# EAGLE library part DPC (library Transformer)
Low Power Miniature Transformer | 1VA Power | 115V/230V Input | 10VCT Output Series Datasheet <https://belfuse.com/resources/datasheets/signaltransformer/ds-st-pc-series.pdf>
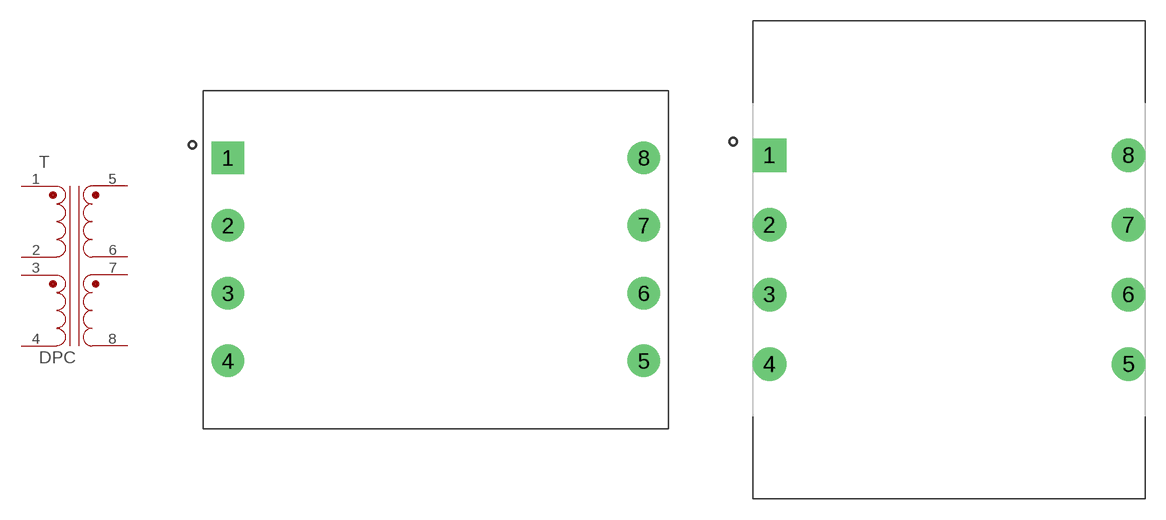
[diagram p5: symbol with the pads of XFMR_DPC-1.0; footprints XFMR_DPC-1.0, XFMR_DPC-1.2]

Designator prefix T

## DPC-10-90_1.0 (CATEGORY: Transformer; MANUFACTURER: Signal Transformer; MPN: DPC-10-90; PART_STATUS: ACTIVE; ROHS_COMPLIANT: COMPLIANT; SERIES: DPC; SUB_CATEGORY: Power; TYPE: Transformers; VALUE: DPC-10-90), DPC-12-70_1.0 (CATEGORY: Transformer; MANUFACTURER: Signal Transformer; MPN: DPC-12-70; PART_STATUS: ACTIVE; ROHS_COMPLIANT: COMPLIANT; SERIES: DPC; SUB_CATEGORY: Power; TYPE: Transformers; VALUE: DPC-12-70), DPC-120-8_1.0 (CATEGORY: Transformer; MANUFACTURER: Signal Transformer; MPN: DPC-120-8; PART_STATUS: ACTIVE; ROHS_COMPLIANT: COMPLIANT; SERIES: DPC; SUB_CATEGORY: Power; TYPE: Transformers; VALUE: DPC-120-8), DPC-16-55_1.0 (CATEGORY: Transformer; MANUFACTURER: Signal Transformer; MPN: DPC-16-55; PART_STATUS: ACTIVE; ROHS_COMPLIANT: COMPLIANT; SERIES: DPC; SUB_CATEGORY: Power; TYPE: Transformers; VALUE: DPC-16-55), DPC-20-45_1.0 (CATEGORY: Transformer; MANUFACTURER: Signal Transformer; MPN: DPC-20-45; PART_STATUS: ACTIVE; ROHS_COMPLIANT: COMPLIANT; SERIES: DPC; SUB_CATEGORY: Power; TYPE: Transformers; VALUE: DPC-20-45), DPC-24-35_1.0 (CATEGORY: Transformer; MANUFACTURER: Signal Transformer; MPN: DPC-24-35; PART_STATUS: ACTIVE; ROHS_COMPLIANT: COMPLIANT; SERIES: DPC; SUB_CATEGORY: Power; TYPE: Transformers; VALUE: DPC-24-35), DPC-28-30_1.0 (CATEGORY: Transformer; MANUFACTURER: Signal Transformer; MPN: DPC-28-30; PART_STATUS: ACTIVE; ROHS_COMPLIANT: COMPLIANT; SERIES: DPC; SUB_CATEGORY: Power; TYPE: Transformers; VALUE: DPC-28-30), DPC-34-25_1.0 (CATEGORY: Transformer; MANUFACTURER: Signal Transformer; MPN: DPC-34-25; PART_STATUS: ACTIVE; ROHS_COMPLIANT: COMPLIANT; SERIES: DPC; SUB_CATEGORY: Power; TYPE: Transformers; VALUE: DPC-34-25), DPC-40-20_1.0 (CATEGORY: Transformer; MANUFACTURER: Signal Transformer; MPN: DPC-40-20; PART_STATUS: ACTIVE; ROHS_COMPLIANT: COMPLIANT; SERIES: DPC; SUB_CATEGORY: Power; TYPE: Transformers; VALUE: DPC-40-20), DPC-56-15_1.0 (CATEGORY: Transformer; MANUFACTURER: Signal Transformer; MPN: DPC-56-15; PART_STATUS: ACTIVE; ROHS_COMPLIANT: COMPLIANT; SERIES: DPC; SUB_CATEGORY: Power; TYPE: Transformers; VALUE: DPC-56-15)  [XFMR_DPC-1.0]
1  1  pas
2  2  pas
3  3  pas
4  4  pas
5  5  pas
6  6  pas
7  7  pas
8  8  pas

## DPC-10-120_1.2 (CATEGORY: Transformer; MANUFACTURER: Signal Transformer; MPN: DPC-12-100; PART_STATUS: ACTIVE; ROHS_COMPLIANT: COMPLIANT; SERIES: DPC; SUB_CATEGORY: Power; TYPE: Transformers; VALUE: DPC-10-120), DPC-12-100_1.2 (CATEGORY: Transformer; MANUFACTURER: Signal Transformer; MPN: DPC-12-100; PART_STATUS: ACTIVE; ROHS_COMPLIANT: COMPLIANT; SERIES: DPC; SUB_CATEGORY: Power; TYPE: Transformers; VALUE: DPC-12-100), DPC-120-10_1.2 (CATEGORY: Transformer; MANUFACTURER: Signal Transformer; MPN: DPC-120-10; PART_STATUS: ACTIVE; ROHS_COMPLIANT: COMPLIANT; SERIES: DPC; SUB_CATEGORY: Power; TYPE: Transformers; VALUE: DPC-120-10), DPC-16-75_1.2 (CATEGORY: Transformer; MANUFACTURER: Signal Transformer; MPN: DPC-16-75; PART_STATUS: ACTIVE; ROHS_COMPLIANT: COMPLIANT; SERIES: DPC; SUB_CATEGORY: Power; TYPE: Transformers; VALUE: DPC-16-75), DPC-20-60_1.2 (CATEGORY: Transformer; MANUFACTURER: Signal Transformer; MPN: DPC-20-60; PART_STATUS: ACTIVE; ROHS_COMPLIANT: COMPLIANT; SERIES: DPC; SUB_CATEGORY: Power; TYPE: Transformers; VALUE: DPC-20-60), DPC-24-50_1.2 (CATEGORY: Transformer; MANUFACTURER: Signal Transformer; MPN: DPC-24-50; PART_STATUS: ACTIVE; ROHS_COMPLIANT: COMPLIANT; SERIES: DPC; SUB_CATEGORY: Power; TYPE: Transformers; VALUE: DPC-24-50), DPC-28-40_1.2 (CATEGORY: Transformer; MANUFACTURER: Signal Transformer; MPN: DPC-28-40; PART_STATUS: ACTIVE; ROHS_COMPLIANT: COMPLIANT; SERIES: DPC; SUB_CATEGORY: Power; TYPE: Transformers; VALUE: DPC-28-40), DPC-34-35_1.2 (CATEGORY: Transformer; MANUFACTURER: Signal Transformer; MPN: DPC-34-35; PART_STATUS: ACTIVE; ROHS_COMPLIANT: COMPLIANT; SERIES: DPC; SUB_CATEGORY: Power; TYPE: Transformers; VALUE: DPC-34-35), DPC-40-30_1.2 (CATEGORY: Transformer; MANUFACTURER: Signal Transformer; MPN: DPC-40-30; PART_STATUS: ACTIVE; ROHS_COMPLIANT: COMPLIANT; SERIES: DPC; SUB_CATEGORY: Power; TYPE: Transformers; VALUE: DPC-40-30), DPC-56-20_1.2 (CATEGORY: Transformer; MANUFACTURER: Signal Transformer; MPN: DPC-56-20; PART_STATUS: ACTIVE; ROHS_COMPLIANT: COMPLIANT; SERIES: DPC; SUB_CATEGORY: Power; TYPE: Transformers; VALUE: DPC-56-20)  [XFMR_DPC-1.2]
Pads as for XFMR_DPC-1.0

## DPC-10-440_4.4 (CATEGORY: Transformer; MANUFACTURER: Signal Transformer; MPN: DPC-10-440; PART_STATUS: ACTIVE; ROHS_COMPLIANT: COMPLIANT; SERIES: DPC; SUB_CATEGORY: Power; TYPE: Transformer; VALUE: DPC-10-440), DPC-12-350_4.4 (CATEGORY: Transformer; MANUFACTURER: Signal Transformer; MPN: DPC-12-350; PART_STATUS: ACTIVE; ROHS_COMPLIANT: COMPLIANT; SERIES: DPC; SUB_CATEGORY: Power; TYPE: Transformer; VALUE: DPC-12-350), DPC-120-35_4.4 (CATEGORY: Transformer; MANUFACTURER: Signal Transformer; MPN: DPC-120-35; PART_STATUS: ACTIVE; ROHS_COMPLIANT: COMPLIANT; SERIES: DPC; SUB_CATEGORY: Power; TYPE: Transformer; VALUE: DPC-120-35), DPC-16-260_4.4 (CATEGORY: Transformer; MANUFACTURER: Signal Transformer; MPN: DPC-16-260; PART_STATUS: ACTIVE; ROHS_COMPLIANT: COMPLIANT; SERIES: DPC; SUB_CATEGORY: Power; TYPE: Transformer; VALUE: DPC-16-260), DPC-20-220_4.4 (CATEGORY: Transformer; MANUFACTURER: Signal Transformer; MPN: DPC-20-220; PART_STATUS: ACTIVE; ROHS_COMPLIANT: COMPLIANT; SERIES: DPC; SUB_CATEGORY: Power; TYPE: Transformer; VALUE: DPC-20-220), DPC-24-180_4.4 (CATEGORY: Transformer; MANUFACTURER: Signal Transformer; MPN: DPC-24-180; PART_STATUS: ACTIVE; ROHS_COMPLIANT: COMPLIANT; SERIES: DPC; SUB_CATEGORY: Power; TYPE: Transformer; VALUE: DPC-24-180), DPC-28-160_4.4 (CATEGORY: Transformer; MANUFACTURER: Signal Transformer; MPN: DPC-28-160; PART_STATUS: ACTIVE; ROHS_COMPLIANT: COMPLIANT; SERIES: DPC; SUB_CATEGORY: Power; TYPE: Transformer; VALUE: DPC-28-160), DPC-34-125_4.4 (CATEGORY: Transformer; MANUFACTURER: Signal Transformer; MPN: DPC-34-125; PART_STATUS: ACTIVE; ROHS_COMPLIANT: COMPLIANT; SERIES: DPC; SUB_CATEGORY: Power; TYPE: Transformer; VALUE: DPC-34-125), DPC-40-110_4.4 (CATEGORY: Transformer; MANUFACTURER: Signal Transformer; MPN: DPC-40-110; PART_STATUS: ACTIVE; ROHS_COMPLIANT: COMPLIANT; SERIES: DPC; SUB_CATEGORY: Power; TYPE: Transformer; VALUE: DPC-40-110), DPC-56-80_4.4 (CATEGORY: Transformer; MANUFACTURER: Signal Transformer; MPN: DPC-56-80; PART_STATUS: ACTIVE; ROHS_COMPLIANT: COMPLIANT; SERIES: DPC; SUB_CATEGORY: Power; TYPE: Transformer; VALUE: DPC-56-80)  [XFMR_DPC-4.4]
Pads as for XFMR_DPC-1.0

## DPC-10-1000_10.0 (CATEGORY: Transformer; MANUFACTURER: Signal Transformer; MPN: DPC-10-1000; PART_STATUS: ACTIVE; ROHS_COMPLAINT: COMPLAINT; SERIES: DPC; SUB_CATEGORY: Power; TYPE: Transformer; VALUE: DPC-10-1000), DPC-12-800_10.0 (CATEGORY: Transformer; MANUFACTURER: Signal Transformer; MPN: DPC-12-800; PART_STATUS: ACTIVE; ROHS_COMPLAINT: COMPLAINT; SERIES: DPC; SUB_CATEGORY: Power; TYPE: Transformer; VALUE: DPC-12-800), DPC-120-85_10.0 (CATEGORY: Transformer; MANUFACTURER: Signal Transformer; MPN: DPC-120-85; PART_STATUS: ACTIVE; ROHS_COMPLAINT: COMPLAINT; SERIES: DPC; SUB_CATEGORY: Power; TYPE: Transformer; VALUE: DPC-56-180), DPC-16-640_10.0 (CATEGORY: Transformer; MANUFACTURER: Signal Transformer; MPN: DPC-16-640; PART_STATUS: ACTIVE; ROHS_COMPLAINT: COMPLAINT; SERIES: DPC; SUB_CATEGORY: Power; TYPE: Transformer; VALUE: DPC-16-640), DPC-20-500_10.0 (CATEGORY: Transformer; MANUFACTURER: Signal Transformer; MPN: DPC-20-500; PART_STATUS: ACTIVE; ROHS_COMPLAINT: COMPLAINT; SERIES: DPC; SUB_CATEGORY: Power; TYPE: Transformer; VALUE: DPC-20-500), DPC-24-450_10.0 (CATEGORY: Transformer; MANUFACTURER: Signal Transformer; MPN: DPC-24-450; PART_STATUS: ACTIVE; ROHS_COMPLAINT: COMPLAINT; SERIES: DPC; SUB_CATEGORY: Power; TYPE: Transformer; VALUE: DPC-24-450), DPC-28-360_10.0 (CATEGORY: Transformer; MANUFACTURER: Signal Transformer; MPN: DPC-28-360; PART_STATUS: ACTIVE; ROHS_COMPLAINT: COMPLAINT; SERIES: DPC; SUB_CATEGORY: Power; TYPE: Transformer; VALUE: DPC-28-360), DPC-34-300_10.0 (CATEGORY: Transformer; MANUFACTURER: Signal Transformer; MPN: DPC-34-300; PART_STATUS: ACTIVE; ROHS_COMPLAINT: COMPLAINT; SERIES: DPC; SUB_CATEGORY: Power; TYPE: Transformer; VALUE: DPC-34-300), DPC-40-250_10.0 (CATEGORY: Transformer; MANUFACTURER: Signal Transformer; MPN: DPC-40-250; PART_STATUS: ACTIVE; ROHS_COMPLAINT: COMPLAINT; SERIES: DPC; SUB_CATEGORY: Power; TYPE: Transformer; VALUE: DPC-40-250), DPC-56-180_10.0 (CATEGORY: Transformer; MANUFACTURER: Signal Transformer; MPN: DPC-56-180; PART_STATUS: ACTIVE; ROHS_COMPLAINT: COMPLAINT; SERIES: DPC; SUB_CATEGORY: Power; TYPE: Transformer; VALUE: DPC-56-180)  [XFMR_DPC-10.0]
Pads as for XFMR_DPC-1.0

## DPC-10-2400_24.0 (CATEGORY: Transformer; MANUFACTURER: Signal Transformer; MPN: DPC-10-2400; PART_STATUS: ACTIVE; ROHS_COMPLIANT: COMPLIANT; SERIES: DPC; SUB_CATEGORY: Power; TYPE: Transformer; VALUE: DPC-10-2400), DPC-12-2000_24.0 (CATEGORY: Transformer; MANUFACTURER: Signal Transformer; MPN: DPC-12-2000; PART_STATUS: ACTIVE; ROHS_COMPLIANT: COMPLIANT; SERIES: DPC; SUB_CATEGORY: Power; TYPE: Transformer; VALUE: DPC-12-2000), DPC-120-200_24.0 (CATEGORY: Transformer; MANUFACTURER: Signal Transformer; MPN: DPC-120-200; PART_STATUS: ACTIVE; ROHS_COMPLIANT: COMPLIANT; SERIES: DPC; SUB_CATEGORY: Power; TYPE: Transformer; VALUE: DPC-120-200), DPC-16-1500_24.0 (CATEGORY: Transformer; MANUFACTURER: Signal Transformer; MPN: DPC-16-1500; PART_STATUS: ACTIVE; ROHS_COMPLIANT: COMPLIANT; SERIES: DPC; SUB_CATEGORY: Power; TYPE: Transformer; VALUE: DPC-16-1500), DPC-20-1200_24.0 (CATEGORY: Transformer; MANUFACTURER: Signal Transformer; MPN: DPC-20-1200; PART_STATUS: ACTIVE; ROHS_COMPLIANT: COMPLIANT; SERIES: DPC; SUB_CATEGORY: Power; TYPE: Transformer; VALUE: DPC-20-1200), DPC-24-1000_24.0 (CATEGORY: Transformer; MANUFACTURER: Signal Transformer; MPN: DPC-24-1000; PART_STATUS: ACTIVE; ROHS_COMPLIANT: COMPLIANT; SERIES: DPC; SUB_CATEGORY: Power; TYPE: Transformer; VALUE: DPC-24-1000), DPC-28-800_24.0 (CATEGORY: Transformer; MANUFACTURER: Signal Transformer; MPN: DPC-28-800; PART_STATUS: ACTIVE; ROHS_COMPLIANT: COMPLIANT; SERIES: DPC; SUB_CATEGORY: Power; TYPE: Transformer; VALUE: DPC-28-800), DPC-34-700_24.0 (CATEGORY: Transformer; MANUFACTURER: Signal Transformer; MPN: DPC-34-700; PART_STATUS: ACTIVE; ROHS_COMPLIANT: COMPLIANT; SERIES: DPC; SUB_CATEGORY: Power; TYPE: Transformer; VALUE: DPC-34-700), DPC-40-600_24.0 (CATEGORY: Transformer; MANUFACTURER: Signal Transformer; MPN: DPC-40-600; PART_STATUS: ACTIVE; ROHS_COMPLIANT: COMPLIANT; SERIES: DPC; SUB_CATEGORY: Power; TYPE: Transformer; VALUE: DPC-40-600), DPC-56-420_24.0 (CATEGORY: Transformer; MANUFACTURER: Signal Transformer; MPN: DPC-56-420; PART_STATUS: ACTIVE; ROHS_COMPLIANT: COMPLIANT; SERIES: DPC; SUB_CATEGORY: Power; TYPE: Transformer; VALUE: DPC-56-420)  [XFMR_DPC-24.0]
Pads as for XFMR_DPC-1.0

## Footprint XFMR_DPC-1.0 (pad centres in mm)
drill 1.62 square: 1 0,0
drill 1.62: 2 0,-5.08; 3 0,-10.16; 4 0,-15.24; 5 31.19,-15.24; 6 31.19,-10.16; 7 31.19,-5.08; 8 31.19,0

## Footprint XFMR_DPC-1.2 (pad centres in mm)
drill 1.62 square: 1 0,0
drill 1.62: 2 0,-5.08; 3 0,-10.16; 4 0,-15.24; 5 26.18,-15.24; 6 26.18,-10.16; 7 26.18,-5.08; 8 26.18,0

## Footprint XFMR_DPC-4.4 (pad centres in mm)
drill 1.62 square: 1 0,0
drill 1.62: 2 0,-6.35; 3 0,-12.7; 4 0,-19.05; 5 28.7,-19.05; 6 28.7,-12.7; 7 28.7,-6.35; 8 28.7,0

## Footprint XFMR_DPC-10.0 (pad centres in mm)
drill 1.62 square: 1 0,0
drill 1.62: 2 0,-6.35; 3 0,-12.7; 4 0,-19.05; 5 33.7,-19.05; 6 33.7,-12.7; 7 33.7,-6.35; 8 33.7,0

## Footprint XFMR_DPC-24.0 (pad centres in mm)
drill 1.62 square: 1 0,0
drill 1.62: 2 0,-6.35; 3 0,-12.7; 4 0,-19.05; 5 54.1,-19.05; 6 54.1,-12.7; 7 54.1,-6.35; 8 54.1,0